# Altium schematic symbol library CNC_shield_for_mkr1000_SchLib.SchLib: 11 symbols
Pins are listed as number, name and electrical type; pins without a type are passive.

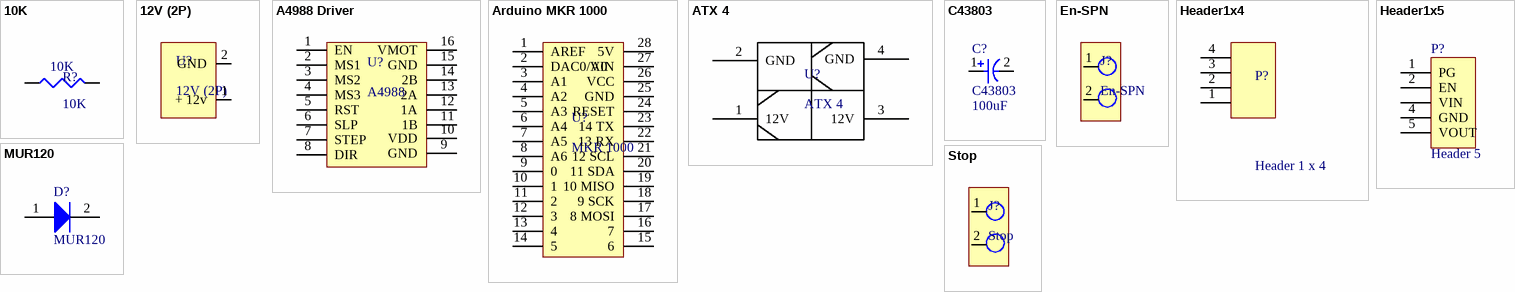
[diagram p0: symbols 10K to Stop]

## 10K
designator R?
Resistor; Published: 8-Jun-2000; LatestRevisionDate: 29-May-2009; LatestRevisionNote: IPC-7351 Footprint Added.; PackageReference: J1-0603; Publisher: Altium Limited; PackageDescription: Chip Resistor; R1: 10K
footprint J1-0603 (Chip Resistor, Body 1.6x0.8mm, IPC High Density)
footprint 14-1210 (Chip Resistor, Body 3.2x2.5mm, IPC High Density)
footprint 12Z-2010 (Chip Resistor, Body 5.0x2.5mm, IPC High Density)
footprint RESC6332 (Chip Resistor, Body 6.3x3.2mm, IPC High Density)
simulation model RESISTOR (Resistor)
signal-integrity model Res
pins: 1, 2

## 12V (2P)
designator U?
IC
pins: 1 + 12v, 2 GND

## A4988 Driver
designator U?, comment A4988
Motor Driver
footprint A4988 Driver
pins: 1 EN, 2 MS1, 3 MS2, 4 MS3, 5 RST, 6 SLP, 7 STEP, 8 DIR, 9 GND, 10 VDD, 11 1B, 12 1A, 13 2A, 14 2B, 15 GND, 16 VMOT

## Arduino MKR 1000
designator U?, comment MKR 1000
Arduino wifi
footprint MKR1000
pins: 1 AREF, 2 DAC0/A0, 3 A1, 4 A2, 5 A3, 6 A4, 7 A5, 8 A6, 9 0, 10 1, 11 2, 12 3, 13 4, 14 5, 15 6, 16 7, 17 8 MOSI, 18 9 SCK, 19 10 MISO, 20 11 SDA, 21 12 SCL, 22 13 RX, 23 14 TX, 24 RESET, 25 GND, 26 VCC, 27 VIN, 28 5V

## ATX 4
designator U?
ATX 4Pins power connector
footprint ATX4
pins: 1 12V, 2 GND, 3 12V, 4 GND

## C43803
designator C?  value 100uF
Polarized Capacitor; Published: 8-Jun-2000; LatestRevisionDate: 29-May-2009; LatestRevisionNote: IPC-7351 Footprint Added.; PackageReference: C0805; Publisher: Altium Limited; PackageDescription: Chip Capacitor
footprint C0805 (Chip Capacitor, Body 2.0x1.3mm, IPC High Density)
footprint 1825 (Chip Capacitor, Body 4.5x6.4mm, IPC High Density)
footprint C2225 (Chip Capacitor, Body 5.7x6.4mm, IPC High Density)
footprint 2220 (Chip Capacitor, Body 5.7x5.0mm, IPC High Density)
simulation model CAP (Capacitor)
signal-integrity model Cap Pol
footprint C43803
pins: 1, 2
1 alternate drawing of the same symbol

## En-SPN
designator J?
Jumper
pins: 1 EN, 2

## Header1x4
designator P?, comment Header 1 x 4
Header, 4-Pin; LatestRevisionDate: 17-Jul-2002; LatestRevisionNote: Re-released for DXP Platform.; Publisher: Altium Limited
footprint HDR1X4 (Connector; Header; 4 Position)
signal-integrity model Connector
pins: 1 4, 2, 3 2, 4 1

## Header1x5
designator P?, comment Header 5
Header, 5-Pin; LatestRevisionDate: 17-Jul-2002; LatestRevisionNote: Re-released for DXP Platform.; Publisher: Altium Limited
footprint HDR1X5 (Connector; Header; 5 Position)
signal-integrity model Connector
pins: 1 PG, 2 EN, 3 VIN, 4 GND, 5 VOUT

## MUR120
designator D?
Diode; Published: 8-Jun-2000; LatestRevisionDate: 17-Jul-2002; LatestRevisionNote: Re-released for DXP Platform.; PackageVersion: Sep-1996; PackageReference: SMC; Publisher: Altium Limited; PackageDescription: DO-214-AB/SMC; 2 C-Bend Leads; Body 7.9 x 5.9 mm, inc. leads (LxW); Code_JEDEC: DO-214-AB
footprint MUR120 (MUR120_diode)
simulation model DIODE (Diode)
signal-integrity model Diode
pins: 1 A, 2 K

## Stop
designator J?
Jumper
pins: 1 EN, 2